# EAGLE library part WIRL-WIFS_2610011025000 (library WE_WIRL_Rev13.0)
Calypso - Wi-Fi Radio Module WIRL-WIFS Calypso WIFI module T&R Details see: https://we-online.de/katalog/en/article/2610011025000/
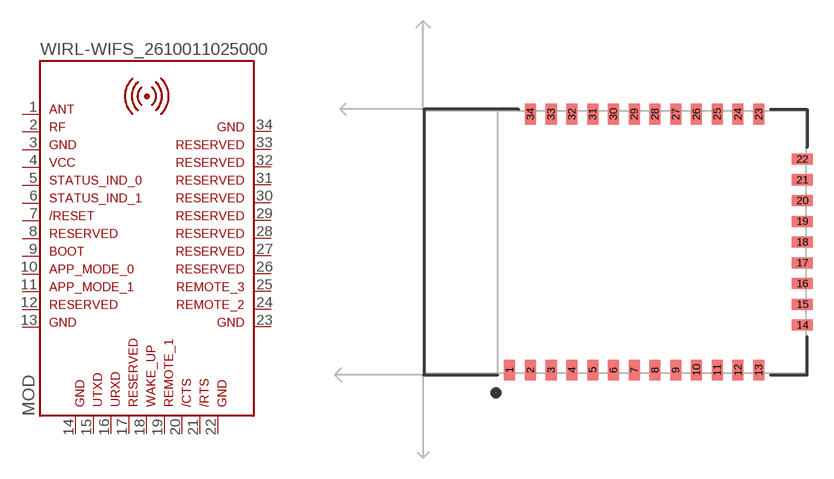
[diagram p21: symbol with the pads of WE-FP-5; footprint WE-FP-5]

Designator prefix MOD

## WIRL-WIFS_2610011025000 (HEIGHT: 3.0mm; MANUFACTURER: Würth Elektronik; NR: 2610011025000)  [WE-FP-5]
1  1  pas
2  2  pas
3  3  pas
4  4  pas
5  5  out
6  6  out
7  7  in
8  8  pas
9  9  in
10  10  in
11  11  in
12  12  pas
13  13  pas
14  14  pas
15  15  out
16  16  in
17  17  pas
18  18  in
19  19  pas
20  20  in
21  21  out
22  22  pas
23  23  pas
24  24  pas
25  25  pas
26  26  pas
27  27  pas
28  28  pas
29  29  pas
30  30  pas
31  31  pas
32  32  pas
33  33  pas
34  34  pas

## Footprint WE-FP-5 (pad centres in mm)
smd 0.8 x 1.5: 1 -7.65,-9.25; 2 -6.15,-9.25; 3 -4.65,-9.25; 4 -3.15,-9.25; 5 -1.65,-9.25; 6 -0.15,-9.25; 7 1.35,-9.25; 8 2.85,-9.25; 9 4.35,-9.25; 10 5.85,-9.25; 11 7.35,-9.25; 12 8.85,-9.25; 13 10.35,-9.25; 23 10.35,9.25; 24 8.85,9.25; 25 7.35,9.25; 26 5.85,9.25; 27 4.35,9.25; 28 2.85,9.25; 29 1.35,9.25; 30 -0.15,9.25; 31 -1.65,9.25; 32 -3.15,9.25; 33 -4.65,9.25; 34 -6.15,9.25
smd 1.5 x 0.8: 14 13.5,-6; 15 13.5,-4.5; 16 13.5,-3; 17 13.5,-1.5; 18 13.5,0; 19 13.5,1.5; 20 13.5,3; 21 13.5,4.5; 22 13.5,6